# EAGLE library part LM25116MHX/NOPB (library ruark2)
Buck Regulator Positive Output Step-Down DC-DC Controller IC 20-HTSSOP
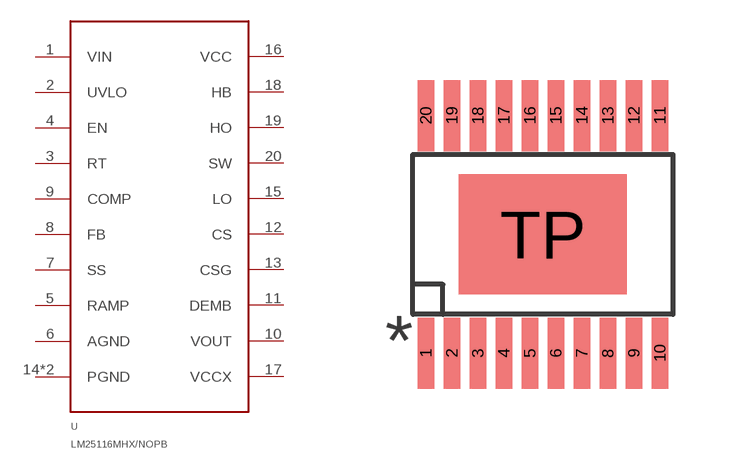
[diagram p79: symbol with the pads of HTSSOP20; footprint HTSSOP20]

Designator prefix U

## LM25116MHX/NOPB (PARTNO: 296-35258-1-ND)  [HTSSOP20]
1  VIN
2  UVLO
3  RT
4  EN
5  RAMP
6  AGND
7  SS
8  FB
9  COMP
10  VOUT
11  DEMB
12  CS
13  CSG
14  PGND
15  LO
16  VCC
17  VCCX
18  HB
19  HO
20  SW
TP  PGND

## Footprint HTSSOP20 (pad centres in mm)
smd 0.42 x 1.78: 1 -2.925,-2.97; 2 -2.275,-2.97; 3 -1.625,-2.97; 4 -0.975,-2.97; 5 -0.325,-2.97; 6 0.325,-2.97; 7 0.975,-2.97; 8 1.625,-2.97; 9 2.275,-2.97; 10 2.925,-2.97; 11 2.925,2.97; 12 2.275,2.97; 13 1.625,2.97; 14 0.975,2.97; 15 0.325,2.97; 16 -0.325,2.97; 17 -0.975,2.97; 18 -1.625,2.97; 19 -2.275,2.97; 20 -2.925,2.97
smd 4.2 x 3: TP 0,0